# EAGLE library part 09036642921 (library 09036642921)
DIN C male angled, 64pin, w/ coding, PL1 (rows a,c loaded) Source: Datasheet <https://b2b.harting.com/files/download/PRD/PDF_DS/PDF_DS_09031200203.pdf>
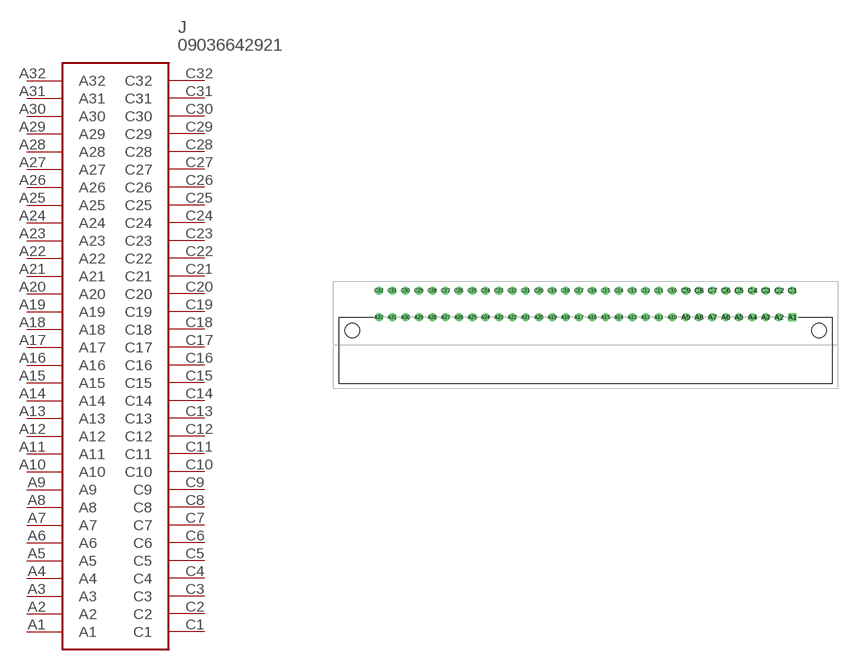
[diagram p0: symbol with the pads of 09036642921; footprint 09036642921]

Designator prefix J

## 09036642921 (Description: DIN C male angled, 64pin, w/ coding, PL1 (rows a,c loaded); Height: 11.6mm; Manufacturer_Name: HARTING; Manufacturer_Part_Number: 09036642921; Mouser_Part_Number: 617-09036642921; Mouser_Price-Stock: https://www.mouser.co.uk/ProductDetail/HARTING/09036642921?qs=UV5Tb6pF94U94qRnmO55Xg%3D%3D)  [09036642921]
A1  A1
A2  A2
A3  A3
A4  A4
A5  A5
A6  A6
A7  A7
A8  A8
A9  A9
A10  A10
A11  A11
A12  A12
A13  A13
A14  A14
A15  A15
A16  A16
A17  A17
A18  A18
A19  A19
A20  A20
A21  A21
A22  A22
A23  A23
A24  A24
A25  A25
A26  A26
A27  A27
A28  A28
A29  A29
A30  A30
A31  A31
A32  A32
C1  C1
C2  C2
C3  C3
C4  C4
C5  C5
C6  C6
C7  C7
C8  C8
C9  C9
C10  C10
C11  C11
C12  C12
C13  C13
C14  C14
C15  C15
C16  C16
C17  C17
C18  C18
C19  C19
C20  C20
C21  C21
C22  C22
C23  C23
C24  C24
C25  C25
C26  C26
C27  C27
C28  C28
C29  C29
C30  C30
C31  C31
C32  C32

## Footprint 09036642921 (pad centres in mm)
09036642921-10
drill 1 pad 1.5 square: A1 0,0
drill 1 pad 1.5: A2 -2.54,0; A3 -5.08,0; A4 -7.62,0; A5 -10.16,0; A6 -12.7,0; A7 -15.24,0; A8 -17.78,0; A9 -20.32,0; A10 -22.86,0; A11 -25.4,0; A12 -27.94,0; A13 -30.48,0; A14 -33.02,0; A15 -35.56,0; A16 -38.1,0; A17 -40.64,0; A18 -43.18,0; A19 -45.72,0; A20 -48.26,0; A21 -50.8,0; A22 -53.34,0; A23 -55.88,0; A24 -58.42,0; A25 -60.96,0; A26 -63.5,0; A27 -66.04,0; A28 -68.58,0; A29 -71.12,0; A30 -73.66,0; A31 -76.2,0; A32 -78.74,0; C1 0,5.08; C2 -2.54,5.08; C3 -5.08,5.08; C4 -7.62,5.08; C5 -10.16,5.08; C6 -12.7,5.08; C7 -15.24,5.08; C8 -17.78,5.08; C9 -20.32,5.08; C10 -22.86,5.08; C11 -25.4,5.08; C12 -27.94,5.08; C13 -30.48,5.08; C14 -33.02,5.08; C15 -35.56,5.08; C16 -38.1,5.08; C17 -40.64,5.08; C18 -43.18,5.08; C19 -45.72,5.08; C20 -48.26,5.08; C21 -50.8,5.08; C22 -53.34,5.08; C23 -55.88,5.08; C24 -58.42,5.08; C25 -60.96,5.08; C26 -63.5,5.08; C27 -66.04,5.08; C28 -68.58,5.08; C29 -71.12,5.08; C30 -73.66,5.08; C31 -76.2,5.08; C32 -78.74,5.08
hole 2.8 at -83.82,-2.54
hole 2.8 at 5.08,-2.54